# Altium schematic symbol library ACS758.SchLib: 2 symbols
Pins are listed as number, name and electrical type; pins without a type are passive.

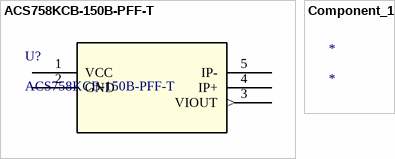
[diagram p0: symbols ACS758KCB-150B-PFF-T to Component_1]

## ACS758KCB-150B-PFF-T
designator U?
No Description Available; Vendor: Allegro Microsystems Inc.; Built_By: EMA_Cory; SourceLibrary: Add_to_database_2020-10-21; Datasheet: https://www.allegromicro.com/~/media/Files/Datasheets/ACS758-Datasheet.ashx; Manufacturer_Part_Number: ACS758KCB-150B-PFF-T; Copyright: Copyright (C) 2018 Accelerated Designs. All rights reserved; RefDes: RefDes; Type: DEV
footprint CB-5_PFF_ALM
pins: 1 VCC (power), 2 GND, 3 VIOUT (out), 4 IP+, 5 IP-

## Component_1
designator *